# Altium footprint library Crystals.PcbLib: 40 footprints (part 2 of 3)
Each footprint in its own frame and in the unit in brackets; x right, y up, seen from the top. Pads: shape width x height; smd on the part's side, far side on the other; paste and mask are expansions set on the pad; w line width, h text height; cw(c..) or ccw(c..) is an arc to the next point about the centre after c.
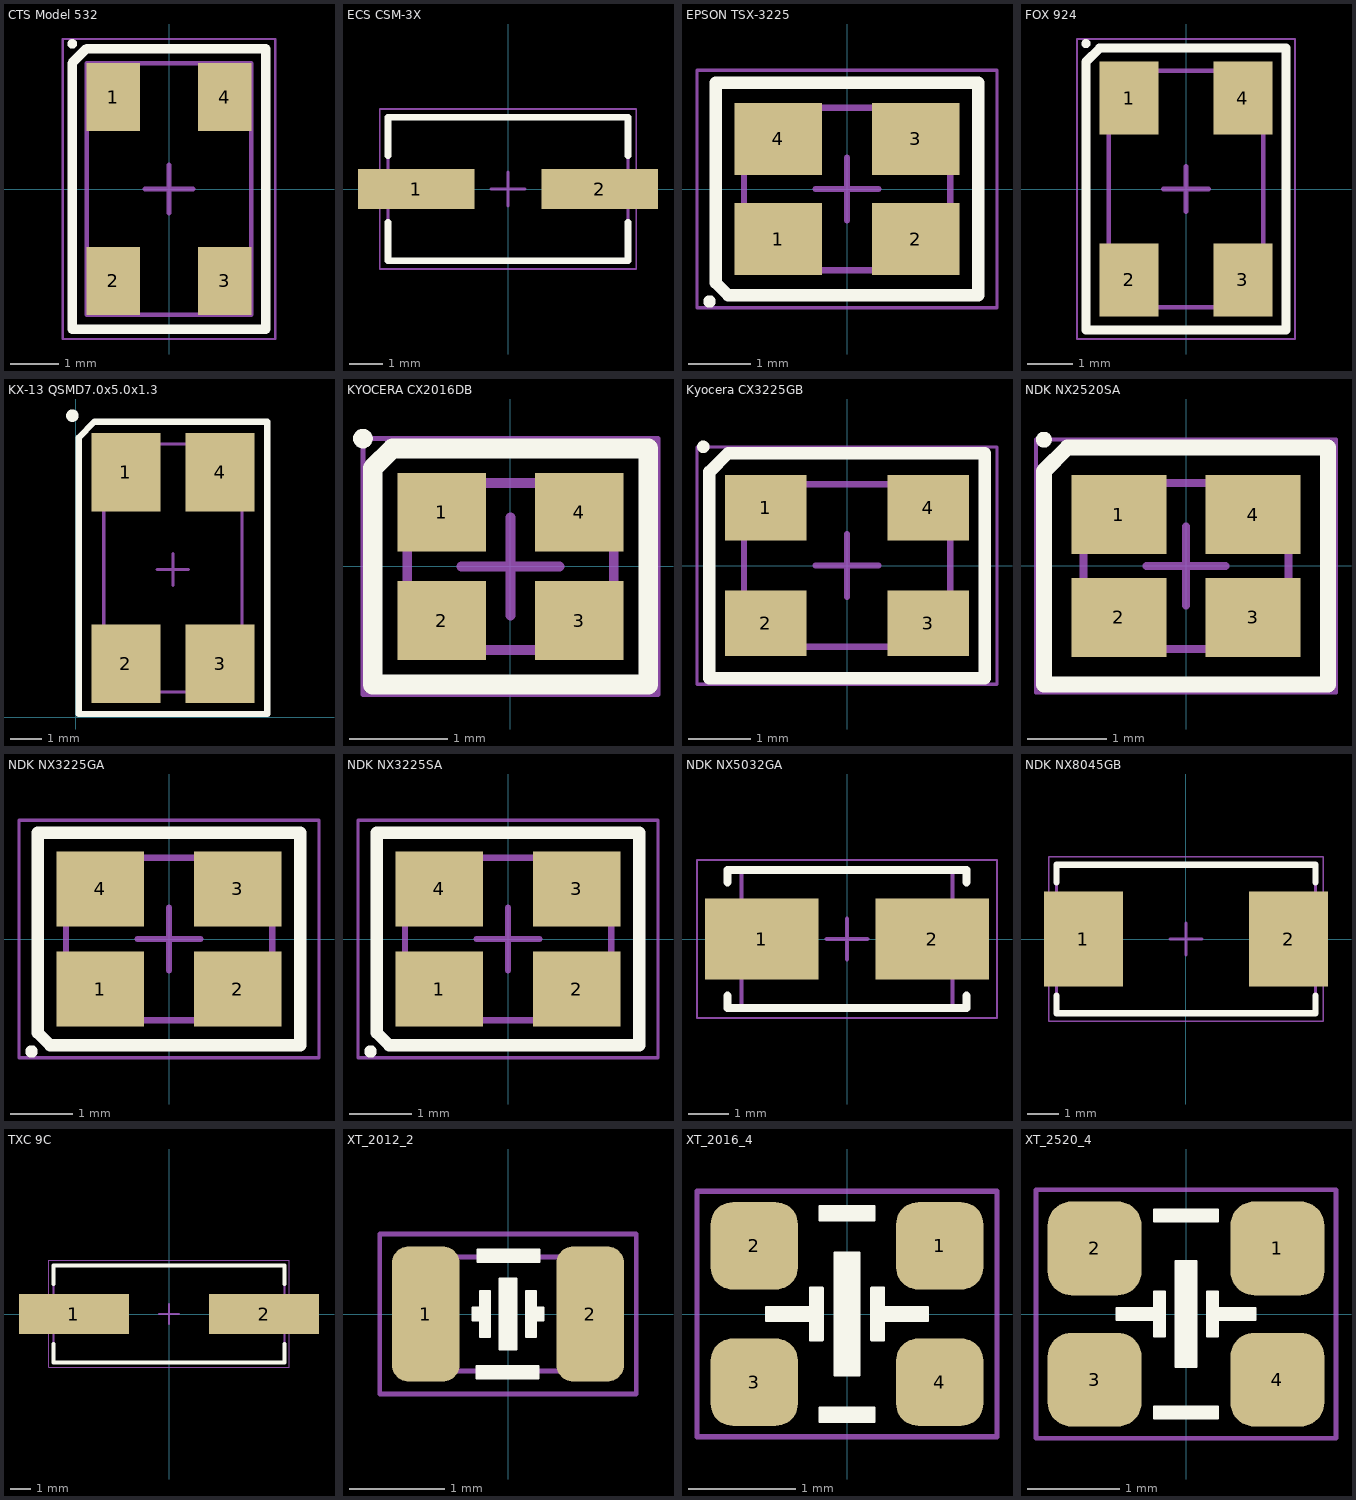
[diagram p1: the footprints below, top view; thin cyan lines are the x and y axes]

## CTS Model 532 [mm] "XO, 4-Leads, Body 5.00x3.20mm, Pitch 3.70mm, IPC Medium Density"
height 1.2
pads (4):
  rect 1.1x1.4 smd: 1(-1.15,1.9) 2(-1.15,-1.9) 3(1.15,-1.9) 4(1.15,1.9)
Top Overlay:
  circle w0.1: c-2,3 r0.05
  lines w0.2: -2,-2.9 2,-2.9 2,2.9 -1.7,2.9 -2,2.6 -2,-2.9
Mechanical 13:
  lines w0.1: -1.7,-2.6 -1.7,2.6 1.7,2.6 1.7,-2.6 -1.7,-2.6
Mechanical 15:
  lines w0.05: -2.2,-3.1 -2.2,3.1 2.2,3.1 2.2,-3.1 -2.2,-3.1
  lines w0.1: -0.5,0 0.5,0 ; 0,-0.5 0,0.5
3D body "CTS 532.STEP": height 1.2, standoff 0, extent -1.625,-2.525 1.625,2.525

## ECS CSM-3X [mm] "Crystal, 2-Leads, Body 4.10x7.00mm, Pitch 5.00mm, IPC Medium Density"
height 2.3
pads (2):
  rect 3.5x1.2 smd: 1(-2.75,0) 2(2.75,0)
Top Overlay:
  lines w0.2: -3.6,-1 -3.6,-2.15 3.6,-2.15 3.6,-1 ; -3.6,1 -3.6,2.15 3.6,2.15 3.6,1
Mechanical 13:
  lines w0.1: -3.6,-2.15 -3.6,2.15 3.6,2.15 3.6,-2.15 -3.6,-2.15
Mechanical 15:
  lines w0.05: -3.85,-2.4 -3.85,2.4 3.85,2.4 3.85,-2.4 -3.85,-2.4
  lines w0.1: -0.5,0 0.5,0 ; 0,-0.5 0,0.5
3D body "ECS CSM-3X.STEP": height 2.3, standoff 0, extent -3.8,-2.05 3.8,2.05

## EPSON TSX-3225 [mm] "Crystal, 4-Leads, Body 2.50x3.20mm, Pitch 2.20mm, IPC Medium Density"
height 0.6
pads (4):
  rect 1.4x1.15 smd: 1(-1.1,-0.8) 2(1.1,-0.8) 3(1.1,0.8) 4(-1.1,0.8)
Top Overlay:
  circle w0.1: c-2.2,-1.8 r0.05
  lines w0.2: -2.1,-1.5 -2.1,1.7 2.1,1.7 2.1,-1.7 -1.1,-1.7 -1.9,-1.7 -2.1,-1.5
Mechanical 13:
  lines w0.1: -1.65,-1.3 -1.65,1.3 1.65,1.3 1.65,-1.3 -1.65,-1.3
Mechanical 15:
  lines w0.05: -2.4,-1.9 -2.4,1.9 2.4,1.9 2.4,-1.9 -2.4,-1.9
  lines w0.1: -0.5,0 0.5,0 ; 0,-0.5 0,0.5
3D body "Epson TSX-3225.STEP": height 0.6, standoff 0, extent -1.61,-1.26 1.61,1.26

## FOX 924 [mm] "XO, 4-Leads, Body 5.00x3.20mm, Pitch 3.70mm, IPC Medium Density"
height 1.5
pads (4):
  rect 1.3x1.6 smd: 1(-1.25,2) 2(-1.25,-2) 3(1.25,-2) 4(1.25,2)
Top Overlay:
  circle w0.1: c-2.2,3.2 r0.05
  lines w0.2: -2.2,-3.1 -2.2,2.8 -1.9,3.1 2.2,3.1 2.2,-3.1 -2.2,-3.1
Mechanical 13:
  lines w0.1: -1.7,-2.6 1.7,-2.6 1.7,2.6 -1.7,2.6 -1.7,-2.6
Mechanical 15:
  lines w0.05: -2.4,-3.3 2.4,-3.3 2.4,3.3 -2.4,3.3 -2.4,-3.3
  lines w0.1: -0.5,0 0.5,0 ; 0,-0.5 0,0.5
3D body "FOX924.STEP": height 1.5, standoff 0, extent -1.625,-2.525 1.625,2.525

## KX-13 QSMD7.0x5.0x1.3 [mm]
pads (4):
  rect 2.2x2.5 smd: 1(1.6,7.8) 2(1.6,1.7) 3(4.6,1.7) 4(4.6,7.8)
Top Overlay:
  circle w0.3: c-0.1,9.6 r0.05
  lines w0.2: 0.1,0.1 6.1,0.1 6.1,9.4 0.6,9.4 0.1,8.9 0.1,0.1
Mechanical 13:
  lines w0.1: 0.9,0.8 0.9,8.7 5.3,8.7 5.3,0.8 0.9,0.8
Mechanical 15:
  lines w0.05: 0.9,0.8 0.9,8.7 5.3,8.7 5.3,0.8 0.9,0.8
  lines w0.1: 2.6,4.7 3.6,4.7 ; 3.1,4.2 3.1,5.2
3D body "User Library-KX-13 7_0x5_0x1_3.STEP": height 1.3, standoff 0, extent 0.6,1.3 5.6,8.3

## KYOCERA CX2016DB [mm] "Crystal, 4-Leads, Body 1.60x2.00mm, Pitch 1.40mm, IPC Medium Density"
height 0.4
pads (4):
  rect 0.9x0.8 smd: 1(-0.7,0.55) 2(-0.7,-0.55) 3(0.7,-0.55) 4(0.7,0.55)
Top Overlay:
  circle w0.1: c-1.5,1.3 r0.05
  lines w0.2: -1.4,-1.2 1.4,-1.2 1.4,1.2 -1.2,1.2 -1.4,1 -1.4,-1.1 -1.4,-1.2
Mechanical 13:
  lines w0.1: -1.05,-0.85 1.05,-0.85 1.05,0.85 -1.05,0.85 -1.05,-0.85
Mechanical 15:
  lines w0.05: -1.5,-1.3 1.5,-1.3 1.5,1.3 -1.5,1.3 -1.5,-1.3
  lines w0.1: -0.5,0 0.5,0 ; 0,-0.5 0,0.5
3D body "Kyocera CX2016DB.STEP": height 0.4, standoff 0, extent -1.025,-0.825 1.025,0.825

## Kyocera CX3225GB [mm] "Crystal, 4-Leads, Body 2.50x3.20mm, Pitch 2.20mm, IPC Medium Density"
height 0.6
pads (4):
  rect 1.3x1.05 smd: 1(-1.3,0.925) 2(-1.3,-0.925) 3(1.3,-0.925) 4(1.3,0.925)
Top Overlay:
  circle w0.1: c-2.3,1.9 r0.05
  lines w0.2: -2.2,-1.8 2.2,-1.8 2.2,1.8 -1.2,1.8 -1.9,1.8 -2.2,1.5 -2.2,-1.8
Mechanical 13:
  lines w0.1: -1.65,-1.3 1.65,-1.3 1.65,1.3 -1.65,1.3 -1.65,-1.3
Mechanical 15:
  lines w0.05: -2.4,-1.9 2.4,-1.9 2.4,1.9 -2.4,1.9 -2.4,-1.9
  lines w0.1: -0.5,0 0.5,0 ; 0,-0.5 0,0.5
3D body "Kyocera CX3225GB.STEP": height 0.85, standoff 0, extent -1.61,-1.26 1.61,1.26

## NDK NX2520SA [mm] "Crystal, 4-Leads, Body 2.00x2.50mm, Pitch 1.70mm, IPC Medium Density"
height 0.5
pads (4):
  rect 1.2x1 smd: 1(-0.85,0.65) 2(-0.85,-0.65) 3(0.85,-0.65) 4(0.85,0.65)
Top Overlay:
  circle w0.1: c-1.8,1.6 r0.05
  lines w0.2: -1.8,-1.5 -1.8,1.2 -1.5,1.5 1.8,1.5 1.8,-1.5 -1.8,-1.5
Mechanical 13:
  lines w0.1: -1.3,-1.05 1.3,-1.05 1.3,1.05 -1.3,1.05 -1.3,-1.05
Mechanical 15:
  lines w0.05: -1.9,-1.6 1.9,-1.6 1.9,1.6 -1.9,1.6 -1.9,-1.6
  lines w0.1: -0.5,0 0.5,0 ; 0,-0.5 0,0.5
3D body "NDK NX2520SA.STEP": height 0.5, standoff 0, extent -1.26,-1.01 1.26,1.01

## NDK NX3225GA [mm] "Crystal, 4-Leads, Body 2.50x3.20mm, Pitch 2.20mm, IPC Medium Density"
height 0.6
pads (4):
  rect 1.4x1.2 smd: 1(-1.1,-0.8) 2(1.1,-0.8) 3(1.1,0.8) 4(-1.1,0.8)
Top Overlay:
  circle w0.1: c-2.2,-1.8 r0.05
  lines w0.2: -2.1,-1.5 -1.9,-1.7 -1.1,-1.7 2.1,-1.7 2.1,1.7 -2.1,1.7 -2.1,-1.5
Mechanical 13:
  lines w0.1: -1.65,-1.3 1.65,-1.3 1.65,1.3 -1.65,1.3 -1.65,-1.3
Mechanical 15:
  lines w0.05: -2.4,-1.9 2.4,-1.9 2.4,1.9 -2.4,1.9 -2.4,-1.9
  lines w0.1: -0.5,0 0.5,0 ; 0,-0.5 0,0.5
3D body "NDK NX3225GA.STEP": height 0.75, standoff 0, extent -1.61,-1.26 1.61,1.26

## NDK NX3225SA [mm] "Crystal, 4-Leads, Body 2.50x3.20mm, Pitch 2.20mm, IPC Medium Density"
height 0.6
pads (4):
  rect 1.4x1.2 smd: 1(-1.1,-0.8) 2(1.1,-0.8) 3(1.1,0.8) 4(-1.1,0.8)
Top Overlay:
  circle w0.1: c-2.2,-1.8 r0.05
  lines w0.2: -2.1,-1.5 -1.9,-1.7 -1.1,-1.7 2.1,-1.7 2.1,1.7 -2.1,1.7 -2.1,-1.5
Mechanical 13:
  lines w0.1: -1.65,-1.3 1.65,-1.3 1.65,1.3 -1.65,1.3 -1.65,-1.3
Mechanical 15:
  lines w0.05: -2.4,-1.9 2.4,-1.9 2.4,1.9 -2.4,1.9 -2.4,-1.9
  lines w0.1: -0.5,0 0.5,0 ; 0,-0.5 0,0.5
3D body "NDK NX3225SA.STEP": height 0.6, standoff 0, extent -1.61,-1.26 1.61,1.26

## NDK NX5032GA [mm] "Crystal, 2-Leads, Body 5.00x3.20mm, IPC Medium Density"
height 1.3
pads (2):
  rect 2.8x2 smd: 1(-2.1,0) 2(2.1,0)
Top Overlay:
  lines w0.2: -2.95,-1.4 -2.95,-1.7 2.95,-1.7 2.95,-1.4 ; -2.95,1.4 -2.95,1.7 2.95,1.7 2.95,1.4
Mechanical 13:
  lines w0.1: -2.6,-1.7 2.6,-1.7 2.6,1.7 -2.6,1.7 -2.6,-1.7
Mechanical 15:
  lines w0.05: -3.7,-1.95 3.7,-1.95 3.7,1.95 -3.7,1.95 -3.7,-1.95
  lines w0.1: -0.5,0 0.5,0 ; 0,-0.5 0,0.5
3D body "NDK NX5032GA.STEP": height 1.2, standoff 0, extent -2.5,-1.6 2.5,1.6

## NDK NX8045GB [mm] "Crystal, 2-Leads, Body 4.50x8.00mm, Pitch 6.50mm, IPC Medium Density"
height 1.8
pads (2):
  rect 2.5x3 smd: 1(-3.25,0) 2(3.25,0)
Top Overlay:
  lines w0.2: -4.1,-1.8 -4.1,-2.35 4.1,-2.35 4.1,-1.8 ; -4.1,1.8 -4.1,2.35 4.1,2.35 4.1,1.8
Mechanical 13:
  lines w0.1: -4.1,-2.35 4.1,-2.35 4.1,2.35 -4.1,2.35 -4.1,-2.35
Mechanical 15:
  lines w0.05: -4.35,-2.6 4.35,-2.6 4.35,2.6 -4.35,2.6 -4.35,-2.6
  lines w0.1: -0.5,0 0.5,0 ; 0,-0.5 0,0.5
3D body "NDK NX8045GB.STEP": height 1.8, standoff 0, extent -4,-2.25 4,2.25

## TXC 9C [mm] "Crystal, 2-Leads, Body 4.70x11.40mm, Pitch 8.80mm, IPC Medium Density"
height 4.2
pads (2):
  rect 5.5x2 smd: 1(-4.75,0) 2(4.75,0)
Top Overlay:
  lines w0.2: -5.775,-1.5 -5.775,-2.425 5.775,-2.425 5.775,-1.5 ; -5.775,1.5 -5.775,2.425 5.775,2.425 5.775,1.5
Mechanical 13:
  lines w0.1: -5.775,-2.425 -5.775,2.425 5.775,2.425 5.775,-2.425 -5.775,-2.425
Mechanical 15:
  lines w0.05: -6.025,-2.675 -6.025,2.675 6.025,2.675 6.025,-2.675 -6.025,-2.675
  lines w0.1: -0.5,0 0.5,0 ; 0,-0.5 0,0.5
3D body "HC49US SMT Crystal.STEP": height 4.2, standoff 0, extent -6.35,-2.35 6.35,2.35

## XT_2012_2 [mil]
height 25.59
pads (2):
  rrect50% 28x56 smd: 1(-34,0) 2(34,0)
Top Overlay:
  region: 12.5,-26.5 -13,-26.5 -13,-21.5 12.5,-21.5
  region: 11.5,-9.5 7.5,-9.5 7.5,9.5 11.5,9.5 11.5,2.5 14.5,2.5 14.5,-2.5 11.5,-2.5
  region: -3.5,14.5 3.5,14.5 3.5,-14.5 -3.5,-14.5
  region: -11.5,9.5 -7.5,9.5 -7.5,-9.5 -11.5,-9.5 -11.5,-2.5 -14.5,-2.5 -14.5,2.5 -11.5,2.5
  region: -12.5,26.5 13,26.5 13,21.5 -12.5,21.5
  lines w1: -14.5,-2.5 -14.5,2.5 -11.5,2.5 -11.5,9.5 -7.5,9.5 -7.5,-9.5 -11.5,-9.5 -11.5,-2.5 -14.5,-2.5 ; -13,-26.5 12.5,-26.5 12.5,-21.5 -13,-21.5 -13,-26.5 ; -12.5,21.5 13,21.5 13,26.5 -12.5,26.5 -12.5,21.5 ; -3.5,-14.5 3.5,-14.5 3.5,14.5 -3.5,14.5 -3.5,-14.5 ; 7.5,-9.5 7.5,9.5 11.5,9.5 11.5,2.5 14.5,2.5 14.5,-2.5 11.5,-2.5 11.5,-9.5 7.5,-9.5
Mechanical 13:
  lines w2: -39.37,-23.62 39.37,-23.62 39.37,23.62 -39.37,23.62 -39.37,-23.62
Mechanical 14:
  lines w2: -53,-33 53,-33 53,33 -53,33 -53,-33
  text ".Designator" at -35,-20 h80
3D body "User Library-NT2016SA-END4910A-48MHZ Crystal (NDK).STEP": height 27.56, standoff -0.04, extent -39.37,-31.5 39.37,31.5

## XT_2016_4 [mil]
height 29.53
pads (4):
  rrect50% 32x32 smd: 1(34,25) 2(-34,25) 3(-34,-25) 4(34,-25)
Top Overlay:
  region: -10,39.5 10,39.5 10,34.5 -10,34.5
  region: -29.5,2.5 -13.5,2.5 -13.5,9.5 -9,9.5 -9,-9.5 -13.5,-9.5 -13.5,-2.5 -29.5,-2.5
  region: -4.5,22.5 4.5,22.5 4.5,-22.5 -4.5,-22.5
  region: 9,9.5 13.5,9.5 13.5,2.5 29.5,2.5 29.5,-2.5 13.5,-2.5 13.5,-9.5 9,-9.5
  region: -10,-34.5 10,-34.5 10,-39.5 -10,-39.5
  lines w1: -29.5,-2.5 -13.5,-2.5 -13.5,-9.5 -9,-9.5 -9,9.5 -13.5,9.5 -13.5,2.5 -29.5,2.5 -29.5,-2.5 ; -10,-39.5 10,-39.5 10,-34.5 -10,-34.5 -10,-39.5 ; -10,34.5 -10,39.5 10,39.5 10,34.5 -10,34.5 ; -4.5,-22.5 4.5,-22.5 4.5,22.5 -4.5,22.5 -4.5,-22.5 ; 9,-9.5 9,9.5 13.5,9.5 13.5,2.5 29.5,2.5 29.5,-2.5 13.5,-2.5 13.5,-9.5 9,-9.5
Mechanical 14:
  lines w2: -55,-45 55,-45 55,45 -55,45 -55,-45
  text ".Designator" at -35,-20 h80
3D body "User Library-NT2016SA-END4910A-48MHZ Crystal (NDK).STEP": height 27.56, standoff -0.04, extent -39.37,-31.5 39.37,31.5

## XT_2520_4 [mil]
height 29.53
pads (4):
  rrect50% 40x40 smd: 1(39,28) 2(-39,28) 3(-39,-28) 4(39,-28)
Top Overlay:
  region: 9,9.5 13.5,9.5 13.5,2.5 29.5,2.5 29.5,-2.5 13.5,-2.5 13.5,-9.5 9,-9.5
  region: -4.5,22.5 4.5,22.5 4.5,-22.5 -4.5,-22.5
  region: -29.5,2.5 -13.5,2.5 -13.5,9.5 -9,9.5 -9,-9.5 -13.5,-9.5 -13.5,-2.5 -29.5,-2.5
  region: -13.5,-39.5 13.5,-39.5 13.5,-44.5 -13.5,-44.5
  region: -13.5,44.5 13.5,44.5 13.5,39.5 -13.5,39.5
  lines w1: -29.5,-2.5 -29.5,2.5 -13.5,2.5 -13.5,9.5 -9,9.5 -9,-9.5 -13.5,-9.5 -13.5,-2.5 -29.5,-2.5 ; -13.5,-44.5 -13.5,-39.5 13.5,-39.5 13.5,-44.5 -13.5,-44.5 ; -13.5,39.5 13.5,39.5 13.5,44.5 -13.5,44.5 -13.5,39.5 ; -4.5,-22.5 -4.5,22.5 4.5,22.5 4.5,-22.5 -4.5,-22.5 ; 9,-9.5 13.5,-9.5 13.5,-2.5 29.5,-2.5 29.5,2.5 13.5,2.5 13.5,9.5 9,9.5 9,-9.5
Mechanical 14:
  lines w2: -64,-53 -64,53 64,53 64,-53 -64,-53
  text ".Designator" at -35,-20 h80
3D body "User Library-Osc KC2520.STEP": height 31.1, standoff 0, extent -49.21,-39.36 49.22,39.37